# Altium footprint library Altium-OPTO.PcbLib: 22 footprints (part 1 of 2)
Each footprint in its own frame and in the unit in brackets; x right, y up, seen from the top. Pads: shape width x height; smd on the part's side, far side on the other; paste and mask are expansions set on the pad; w line width, h text height; cw(c..) or ccw(c..) is an arc to the next point about the centre after c.
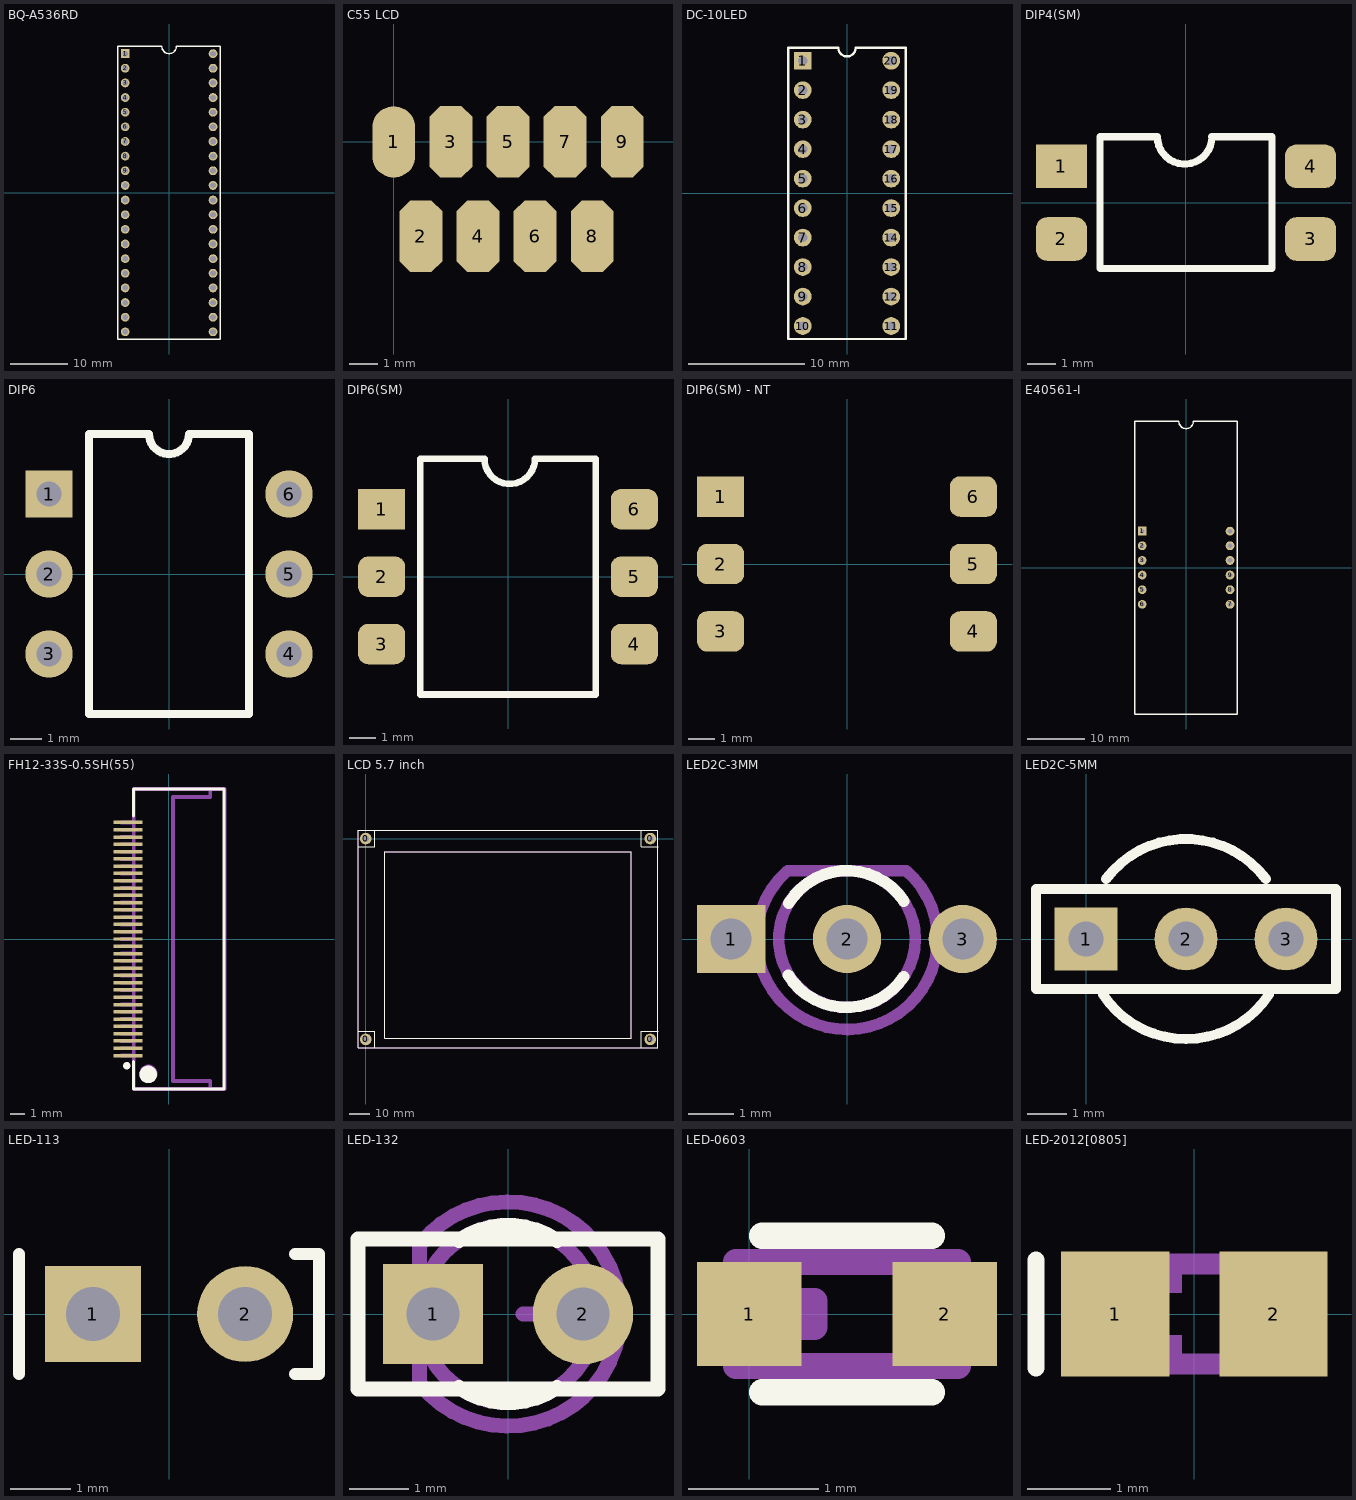
[diagram p0: the footprints below, top view; thin cyan lines are the x and y axes]

## BQ-A536RD [mil]
height 275.59
pads (40):
  rect 60x60 hole 38: 1(-300,950)
  round 60 hole 38: 2(-300,850) 3(-300,750) 4(-300,650) 5(-300,550) 6(-300,450) 7(-300,350) 8(-300,250) 9(-300,150) 10(-300,50) 11(-300,-50) 12(-300,-150) 13(-300,-250) 14(-300,-350) 15(-300,-450) 16(-300,-550) 17(-300,-650) 18(-300,-750) 19(-300,-850) 20(-300,-950) 21(300,-950) 22(300,-850) 23(300,-750) 24(300,-650) 25(300,-550) 26(300,-450) 27(300,-350) 28(300,-250) 29(300,-150) 30(300,-50) 31(300,50) 32(300,150) 33(300,250) 34(300,350) 35(300,450) 36(300,550) 37(300,650) 38(300,750) 39(300,850) 40(300,950)
Top Overlay:
  lines w10: -351.18,-998.82 -351.18,1001.18 -51.18,1001.18 -50,1000 ccw(c0,1000) 50,1000 51.18,1001.18 350,1001.18 350,-998.82 -351.18,-998.82
3D body: height 275.59, standoff 0, extent -351.18,-998.82 349.61,1001.18

## C55 LCD [mm] "monochrome LCD display 101x63 dots"
pads (9):
  oval 1.5x2.5 smd: 1(0,0)
  oct 1.5x2.5 smd: 2(0.95,-3.3) 3(2,0) 4(2.95,-3.3) 5(4,0) 6(4.95,-3.3) 7(6,0) 8(6.95,-3.3) 9(8,0)
3D body: height 4, standoff 0.1, extent -11.15,-23.8 18.85,3.2

## DC-10LED [mil] "LED Light bar x10"
height 314.96
pads (20):
  rect 60x60 hole 31.5: 1(-150,450)
  round 60 hole 31.5: 2(-150,350) 3(-150,250) 4(-150,150) 5(-150,50) 6(-150,-50) 7(-150,-150) 8(-150,-250) 9(-150,-350) 10(-150,-450) 11(150,-450) 12(150,-350) 13(150,-250) 14(150,-150) 15(150,-50) 16(150,50) 17(150,150) 18(150,250) 19(150,350) 20(150,450)
Top Overlay:
  lines w7.87: -198.82,-494.09 198.82,-494.09 198.82,494.09 29.53,494.09 cw(c0,494.09) -29.53,494.09 -198.82,494.09 -198.82,-494.09
3D body: height 314.96, standoff 0, extent -198.82,-494.09 198.82,494.09

## DIP4(SM) [mil] "Surface Mount"
height 137.8
pads (4):
  rect 70x60 smd: 1(-171.26,50)
  rrect50% 70x60 smd: 2(-171.26,-50) 3(171.26,-50) 4(171.26,50)
Top Overlay:
  lines w10: 35.43,90.55 75.69,90.55 118.11,90.55 118.11,-90.55 -118.11,-90.55 -118.11,90.55 -39.37,90.55 ccw(c-1.87,90.55) 35.63,90.55
3D body: height 137.8, standoff 0, extent -118.11,-90.55 118.11,90.55

## DIP6 [mm]
pads (6):
  rect 1.5x1.5 hole 0.8: 1(-3.81,2.54)
  round 1.5 hole 0.8: 2(-3.81,0) 3(-3.81,-2.54) 4(3.81,-2.54) 5(3.81,0) 6(3.81,2.54)
Top Overlay:
  lines w0.254: -2.54,-4.445 -2.54,4.445 -1.27,4.445 -0.635,4.445 ccw(c0,4.445) 0.635,4.445 1.27,4.445 2.54,4.445 2.54,-4.445 -2.54,-4.445

## DIP6(SM) [mil] "Surface Mount"
height 196.85
pads (6):
  rect 70x60 smd: 1(-187.5,100)
  rrect50% 70x60 smd: 2(-187.5,0) 3(-187.5,-100) 4(187.5,-100) 5(187.5,0) 6(187.5,100)
Top Overlay:
  lines w10: -130,-175 -130,175 -35,175 ccw(c2.5,175) 40,175 130,175 130,-175 -130,-175
3D body: height 196.85, standoff 0, extent -130,-175 127.5,175

## DIP6(SM) - NT [mil] "Surface Mount"
height 196.85
pads (6):
  rect 70x60 smd: 1(-187.5,100)
  rrect50% 70x60 smd: 2(-187.5,0) 3(-187.5,-100) 4(187.5,-100) 5(187.5,0) 6(187.5,100)
3D body: height 196.85, standoff 0, extent -130,-175 127.5,175

## E40561-I [mil]
height 314.96
pads (12):
  rect 60x60 hole 31.5: 1(-300,250)
  round 60 hole 31.5: 2(-300,150) 3(-300,50) 4(-300,-50) 5(-300,-150) 6(-300,-250) 7(300,-250) 8(300,-150) 9(300,-50) 10(300,50) 11(300,150) 12(300,250)
Top Overlay:
  lines w10: -351.18,-998.82 -351.18,1001.18 -51.18,1001.18 -50,1000 ccw(c0,1000) 50,1000 51.18,1001.18 350,1001.18 350,-998.82 -351.18,-998.82
3D body: height 314.96, standoff 0, extent -351.18,-998.82 349.61,1001.18

## FH12-33S-0.5SH(55) [mm] "0.5mm pitch connector for FPC/FFC"
height 2
pads (33):
  rect 2x0.24 smd: 1(-2.8,-8) 2(-2.8,-7.5) 3(-2.8,-7) 4(-2.8,-6.5) 5(-2.8,-6) 6(-2.8,-5.5) 7(-2.8,-5) 8(-2.8,-4.5) 9(-2.8,-4) 10(-2.8,-3.5) 11(-2.8,-3) 12(-2.8,-2.5) 13(-2.8,-2) 14(-2.8,-1.5) 15(-2.8,-1) 16(-2.8,-0.5) 17(-2.8,0) 18(-2.8,0.5) 19(-2.8,1) 20(-2.8,1.5) 21(-2.8,2) 22(-2.8,2.5) 23(-2.8,3) 24(-2.8,3.5) 25(-2.8,4) 26(-2.8,4.5) 27(-2.8,5) 28(-2.8,5.5) 29(-2.8,6) 30(-2.8,6.5) 31(-2.8,7) 32(-2.8,7.5) 33(-2.8,8)
Top Overlay:
  circle w0.25: c-2.875,-8.7 r0.125
  circle w0.6: c-1.4,-9.3 r0.3
  lines w0.2: -2.4,-8.4 -2.4,-10.3 3.8,-10.3 3.8,10.3 -2.4,10.3 -2.4,8.45
Mechanical 13:
  circle w0.254: c-1.4,-9.25 r0.5
  lines w0.254: -3.25,-8 -2.4,-8 ; -3.25,-7.5 -2.4,-7.5 ; -3.25,-7 -2.4,-7 ; -3.25,-6.5 -2.4,-6.5 ; -3.25,-6 -2.4,-6 ; -3.25,-5.5 -2.4,-5.5 ; -3.25,-5 -2.4,-5 ; -3.25,-4.5 -2.4,-4.5 ; -3.25,-4 -2.4,-4 ; -3.25,-3.5 -2.4,-3.5 ; -3.25,-3 -2.4,-3 ; -3.25,-2.5 -2.4,-2.5 ; -3.25,-2 -2.4,-2 ; -3.25,-1.5 -2.4,-1.5 ; -3.25,-1 -2.4,-1 ; -3.25,-0.5 -2.4,-0.5 ; -3.25,0 -2.4,0 ; -3.25,0.5 -2.4,0.5 ; -3.25,1 -2.4,1 ; -3.25,1.5 -2.4,1.5 ; -3.25,2 -2.4,2 ; -3.25,2.5 -2.4,2.5 ; -3.25,3 -2.4,3 ; -3.25,3.5 -2.4,3.5 ; -3.25,4 -2.4,4 ; -3.25,4.5 -2.4,4.5 ; -3.25,5 -2.4,5 ; -3.25,5.5 -2.4,5.5 ; -3.25,6 -2.4,6 ; -3.25,6.5 -2.4,6.5 ; -3.25,7 -2.4,7 ; -3.25,7.5 -2.4,7.5 ; -3.25,8 -2.4,8 ; 2.85,-10.3 2.85,-9.75 0.3,-9.75 0.3,9.75 2.85,9.75 2.85,10.3 ; -2.4,-10.3 -2.4,10.3 3.85,10.3 3.85,-10.3 -2.4,-10.3
  text ".Designator" at -2.525,11.05 h2
3D body: height 2, standoff 0.15, extent -2.4,-10.3 3.9,10.35

## LCD 5.7 inch [mm]
pads (4):
  round 5.6 hole 3.1: 0(0,-96.4) 0(0,0) 0(136.6,-96.4) 0(136.6,0)
Top Overlay:
  lines w0.2: -3.7,-92.422 4.3,-92.422 4.3,-100.511 ; -3.7,-3.978 4.3,-3.978 4.3,4.111 ; 132.3,-100.511 132.3,-92.422 140.3,-92.422 ; 132.3,4.111 132.3,-3.978 140.3,-3.978 ; -3.7,-100.5 140.3,-100.5 140.3,4.1 -3.7,4.1 -3.7,-100.5 ; 9.2,-95.8 127.4,-95.8 127.4,-6.4 9.2,-6.4 9.2,-95.8
Mechanical 13:
  lines w0.2: -3.7,-100.5 -3.7,4.1 140.3,4.1 140.3,-100.5 -3.7,-100.5 ; 9.2,-95.8 9.2,-6.4 127.4,-6.4 127.4,-95.8 9.2,-95.8
  text ".Designator" at -2.925,2.35 h2
3D body: height 11.55, standoff 2, extent 9.2,-95.8 127.4,-6.4
3D body: height 12.55, standoff 2, extent -3.7,-100.5 140.3,4.1
3D body: height 2, standoff 0, extent -3.7,-100.5 4.3,-92.4
3D body: height 2, standoff 0, extent -3.7,-4 4.3,4.1
3D body: height 2, standoff 0, extent 132.3,-4 140.3,4.1
3D body: height 2, standoff 0, extent 132.3,-100.5 140.3,-92.4

## LED2C-3MM [mm]
pads (3):
  rect 1.5x1.5 hole 0.9: 1(-2.54,0)
  round 1.5 hole 0.9: 2(0,0) 3(2.54,0)
Top Overlay:
  lines w0.254: -1.291,-0.794 ccw(c-0.013,0.009) 1.243,-0.828 ; -1.277,0.786 cw(c0,0) 1.248,0.832
Mechanical 13:
  circle w0.254: c0,0 r1.5
  lines w0.254: -1.328,1.475 ccw(c0,0) 1.3,1.5 -1.3,1.5
  text ".Designator" at -1.425,2.35 h2
3D body: height 5.5, standoff 2.5, extent -1.492,-1.5 1.492,1.487
3D body: height 4, standoff 1, extent -1.492,-1.503 1.496,1.491

## LED2C-5MM [mm]
pads (3):
  rect 1.6x1.6 hole 0.9: 1(0,0)
  round 1.6 hole 0.9: 2(2.54,0) 3(5.08,0)
Top Overlay:
  lines w0.254: 0.427,-1.409 ccw(c2.54,0) 4.653,-1.409 ; 0.509,1.525 cw(c2.54,0) 4.571,1.525 ; -1.27,-1.27 6.35,-1.27 6.35,1.27 -1.27,1.27 -1.27,-1.27
3D body: height 1, standoff 0, extent -1.269,-1.269 6.349,1.269
3D body: height 4, standoff 1, extent 0.1,-2.5 5.08,2.49
3D body: height 6.5, standoff 1.5, extent 0.1,-2.5 5.074,2.479

## LED-113 [mm] "2x5mm rectangle"
height 7
pads (2):
  rect 1.6x1.6 hole 0.9: 1(-1.27,0)
  round 1.6 hole 0.9: 2(1.27,0)
Top Overlay:
  lines w0.2: -2.5,-1 -2.5,1 ; 2.1,-1 2.5,-1 2.5,1 2.1,1
3D body: height 7, standoff 0, extent -2.5,-1 2.5,1

## LED-132 [mm]
height 6.65
pads (2):
  rect 1.7x1.7 hole 0.9: 1(-1.27,0)
  round 1.7 hole 0.9: 2(1.27,0)
Top Overlay:
  lines w0.254: -0.832,-1.248 ccw(c0,0) 0.832,-1.248 ; -0.832,1.248 cw(c0,0) 0.832,1.248 ; -2.54,-1.27 -2.54,1.27 2.54,1.27 2.54,-1.27 -2.54,-1.27
Mechanical 13:
  circle w0.254: c0,0 r1.5
  lines w0.254: -1.5,-1.15 -1.5,1.2 ; -1.489,-1.181 ccw(c0,0) -1.484,1.187 ; 0.25,0 1.25,0 ; 0.75,-0.5 0.75,0.5
  text ".Designator" at -1.725,2.6 h2
3D body: height 6.65, standoff 3.35, extent -1.633,-1.643 1.65,1.643
3D body: height 5, standoff 1, extent -1.637,-1.647 1.65,1.647
3D body: height 2, standoff 1, extent -1.893,-1.9 1.893,1.893

## LED-0603 [mm]
pads (2):
  rect 0.8x0.8 smd: 1(0,0) 2(1.5,0)
Top Overlay:
  lines w0.2: 0.1,-0.6 1.4,-0.6 ; 0.1,0.6 1.4,0.6
Mechanical 13:
  lines w0.2: -0.1,-0.4 1.6,-0.4 1.6,0.4 -0.1,0.4 -0.1,-0.4 ; 0.3,-0.1 0.3,0.1 0.5,0.1 0.5,-0.1 0.3,-0.1
  text ".designator" at -0.1,0.9 h2

## LED-2012[0805] [mm]
height 1.1
pads (2):
  rect 1.3x1.5 smd: 1(-0.95,0) 2(0.95,0)
Top Overlay:
  lines w0.2: -1.9,-0.65 -1.9,0.65
Mechanical 13:
  rectangle: -0.65,-0.6 -0.15,-0.25
  rectangle: -0.65,0.25 -0.15,0.6
  lines w0.254: -0.65,-0.6 -0.65,0.6 ; 0.65,-0.6 0.65,0.6 ; -1,-0.6 -1,0.6 1,0.6 1,-0.6 -1,-0.6
  text ".Designator" at -1.3,1.1 h2
3D body: height 0.25, standoff 0, extent -1.4,-0.75 1.4,0.75
3D body: height 1.1, standoff 0, extent -0.762,-0.762 0.762,0.762